# Altium integrated library altera-cyclone-II.IntLib: 24 symbols (part 3 of 3)
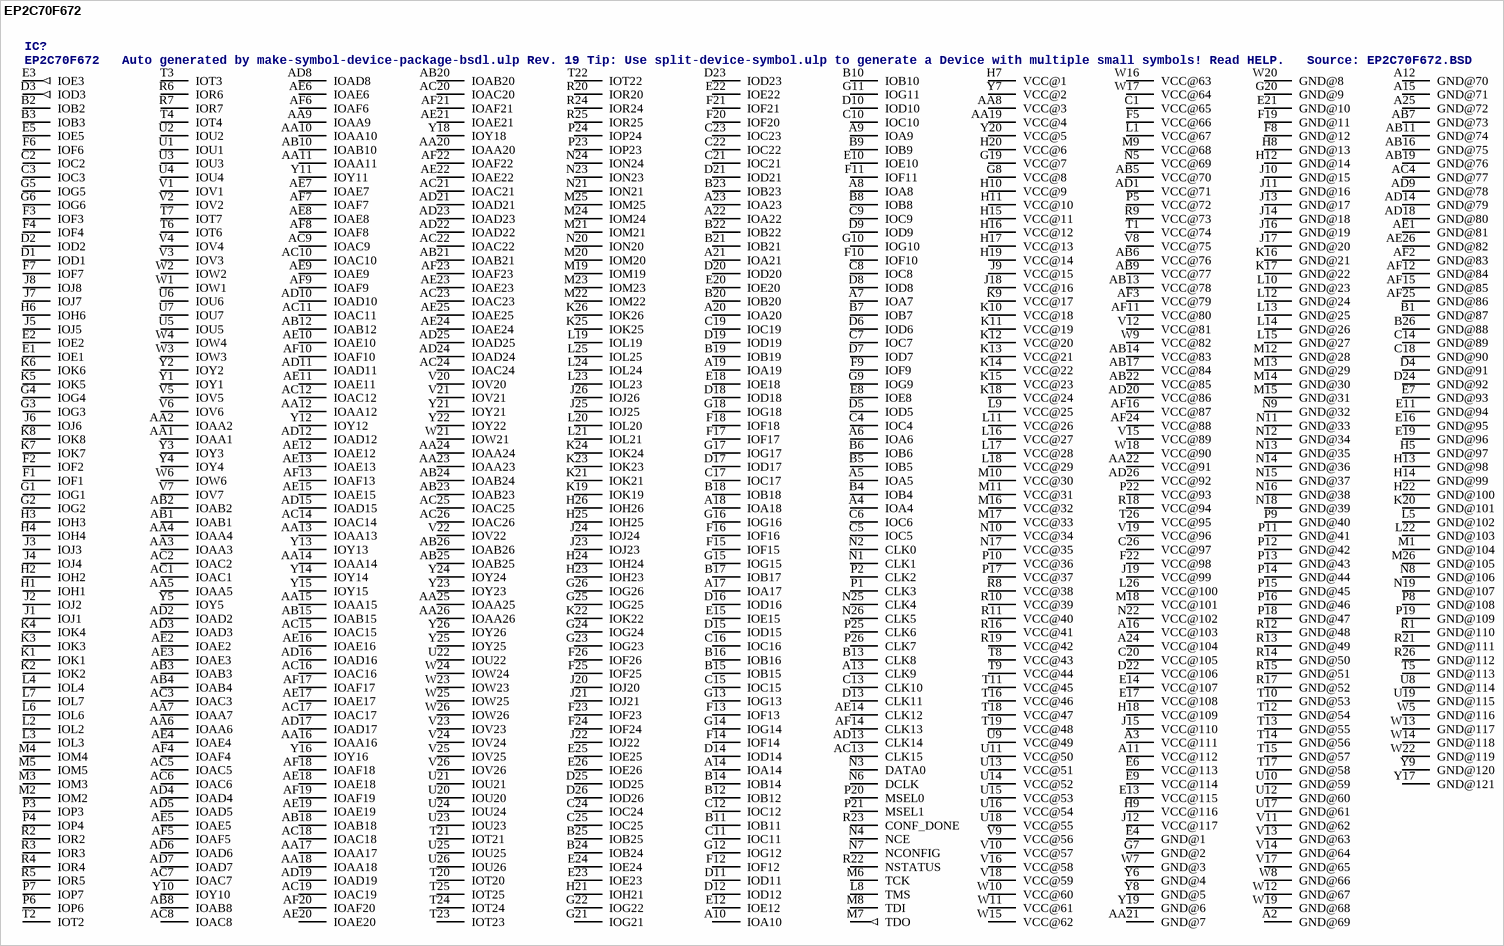
[diagram p22: symbol EP2C70F672]

## EP2C70F672
designator IC?, comment EP2C70F672   Auto generated by make-symbol-device-package-bsdl.ulp Rev. 19 Tip: Use split-device-symbol.ulp to generate a Device with multiple small symbols! Read HELP.   Source: EP2C70F672.BSD
MPN: EP2C70F672C8N; OC_FARNELL: 1635091; OC_NEWARK: 51R0572
footprint FBGA672
pins: A2 GND@69 (power), A3 VCC@111 (power), A4 IOA4, A5 IOA5, A6 IOA6, A7 IOA7, A8 IOA8, A9 IOA9, A10 IOA10, A11 VCC@112 (power), A12 GND@70 (power), A13 CLK9, A14 IOA14, A15 GND@71 (power), A16 VCC@103 (power), A17 IOA17, A18 IOA18, A19 IOA19, A20 IOA20, A21 IOA21, A22 IOA22, A23 IOA23, A24 VCC@104 (power), A25 GND@72 (power), AA1 IOAA1, AA2 IOAA2, AA3 IOAA3, AA4 IOAA4, AA5 IOAA5, AA6 IOAA6, AA7 IOAA7, AA8 VCC@3 (power), AA9 IOAA9, AA10 IOAA10, AA11 IOAA11, AA12 IOAA12, AA13 IOAA13, AA14 IOAA14, AA15 IOAA15, AA16 IOAA16, AA17 IOAA17, AA18 IOAA18, AA19 VCC@4 (power), AA20 IOAA20, AA21 GND@7 (power), AA22 VCC@91 (power), AA23 IOAA23, AA24 IOAA24, AA25 IOAA25, AA26 IOAA26, AB1 IOAB1, AB2 IOAB2, AB3 IOAB3, AB4 IOAB4, AB5 VCC@70 (power), AB6 VCC@76 (power), AB7 GND@73 (power), AB8 IOAB8, AB9 VCC@77 (power), AB10 IOAB10, AB11 GND@74 (power), AB12 IOAB12, AB13 VCC@78 (power), AB14 VCC@83 (power), AB15 IOAB15, AB16 GND@75 (power), AB17 VCC@84 (power), AB18 IOAB18, AB19 GND@76 (power), AB20 IOAB20, AB21 IOAB21, AB22 VCC@85 (power), AB23 IOAB23, AB24 IOAB24, AB25 IOAB25, AB26 IOAB26, AC1 IOAC1, AC2 IOAC2, AC3 IOAC3, AC4 GND@77 (power), AC5 IOAC5, AC6 IOAC6, AC7 IOAC7, AC8 IOAC8, AC9 IOAC9, AC10 IOAC10, AC11 IOAC11, AC12 IOAC12, AC13 CLK15, AC14 IOAC14, AC15 IOAC15, AC16 IOAC16, AC17 IOAC17, AC18 IOAC18, AC19 IOAC19, AC20 IOAC20, AC21 IOAC21, AC22 IOAC22, AC23 IOAC23, AC24 IOAC24, AC25 IOAC25, AC26 IOAC26, AD1 VCC@71 (power), AD2 IOAD2, AD3 IOAD3, AD4 IOAD4, AD5 IOAD5, AD6 IOAD6, AD7 IOAD7, AD8 IOAD8, AD9 GND@78 (power), AD10 IOAD10, AD11 IOAD11, AD12 IOAD12, AD13 CLK14, AD14 GND@79 (power), AD15 IOAD15, AD16 IOAD16, AD17 IOAD17, AD18 GND@80 (power), AD19 IOAD19, AD20 VCC@86 (power), AD21 IOAD21, AD22 IOAD22, AD23 IOAD23, AD24 IOAD24, AD25 IOAD25, AD26 VCC@92 (power), AE1 GND@81 (power), AE2 IOAE2, AE3 IOAE3, AE4 IOAE4, AE5 IOAE5, AE6 IOAE6, AE7 IOAE7, AE8 IOAE8, AE9 IOAE9, AE10 IOAE10, AE11 IOAE11, AE12 IOAE12, AE13 IOAE13, AE14 CLK12, AE15 IOAE15, AE16 IOAE16, AE17 IOAE17, AE18 IOAE18, AE19 IOAE19, AE20 IOAE20, AE21 IOAE21, AE22 IOAE22, AE23 IOAE23, AE24 IOAE24, AE25 IOAE25, AE26 GND@82 (power), AF2 GND@83 (power), AF3 VCC@79 (power), AF4 IOAF4, AF5 IOAF5, AF6 IOAF6, AF7 IOAF7, AF8 IOAF8, AF9 IOAF9, AF10 IOAF10, AF11 VCC@80 (power), AF12 GND@84 (power), AF13 IOAF13, AF14 CLK13, AF15 GND@85 (power), AF16 VCC@87 (power), AF17 IOAF17, AF18 IOAF18, AF19 IOAF19, AF20 IOAF20, AF21 IOAF21, AF22 IOAF22, AF23 IOAF23, AF24 VCC@88 (power), AF25 GND@86 (power), B1 GND@87 (power), B2 IOB2, B3 IOB3, B4 IOB4, B5 IOB5, B6 IOB6, B7 IOB7, B8 IOB8, B9 IOB9, B10 IOB10, B11 IOB11, B12 IOB12, B13 CLK8, B14 IOB14, B15 IOB15, B16 IOB16, B17 IOB17, B18 IOB18, B19 IOB19, B20 IOB20, B21 IOB21, B22 IOB22, B23 IOB23, B24 IOB24, B25 IOB25, B26 GND@88 (power), C1 VCC@65 (power), C2 IOC2, C3 IOC3, C4 IOC4, C5 IOC5, C6 IOC6, C7 IOC7, C8 IOC8, C9 IOC9, C10 IOC10, C11 IOC11, C12 IOC12, C13 CLK10, C14 GND@89 (power), C15 IOC15, C16 IOC16, C17 IOC17, C18 GND@90 (power), C19 IOC19, C20 VCC@105 (power), C21 IOC21, C22 IOC22, C23 IOC23, C24 IOC24, C25 IOC25, C26 VCC@97 (power), D1 IOD1, D2 IOD2, D3 IOD3 (out), D4 GND@91 (power), D5 IOD5, D6 IOD6, D7 IOD7, D8 IOD8, D9 IOD9, D10 IOD10, D11 IOD11, D12 IOD12, D13 CLK11, D14 IOD14, D15 IOD15, D16 IOD16, D17 IOD17, D18 IOD18, D19 IOD19, D20 IOD20, D21 IOD21, D22 VCC@106 (power), D23 IOD23, D24 GND@92 (power), D25 IOD25, D26 IOD26, E1 IOE1, E2 IOE2, E3 IOE3 (out), E4 GND@1 (power), E5 IOE5, E6 VCC@113 (power), E7 GND@93 (power), E8 IOE8, E9 VCC@114 (power), E10 IOE10, E11 GND@94 (power), E12 IOE12, E13 VCC@115 (power), E14 VCC@107 (power), E15 IOE15, E16 GND@95 (power), E17 VCC@108 (power), E18 IOE18, E19 GND@96 (power), E20 IOE20, E21 GND@10 (power), E22 IOE22, E23 IOE23, E24 IOE24, E25 IOE25, E26 IOE26, F1 IOF1, F2 IOF2, F3 IOF3, F4 IOF4, F5 VCC@66 (power), F6 IOF6, F7 IOF7, F8 GND@12 (power), F9 IOF9, F10 IOF10, F11 IOF11, F12 IOF12, F13 IOF13, F14 IOF14, F15 IOF15, F16 IOF16, F17 IOF17, F18 IOF18, F19 GND@11 (power), F20 IOF20, F21 IOF21, F22 VCC@98 (power), F23 IOF23, F24 IOF24, F25 IOF25, F26 IOF26, G1 IOG1, G2 IOG2, G3 IOG3, G4 IOG4, G5 IOG5, G6 IOG6, G7 GND@2 (power), G8 VCC@8 (power), G9 IOG9, G10 IOG10, G11 IOG11, G12 IOG12, G13 IOG13, G14 IOG14, G15 IOG15, G16 IOG16, G17 IOG17, G18 IOG18, G19 VCC@7 (power), G20 GND@9 (power), G21 IOG21, G22 IOG22, G23 IOG23, G24 IOG24, G25 IOG25, G26 IOG26, H1 IOH1, H2 IOH2, H3 IOH3, H4 IOH4, H5 GND@97 (power), H6 IOH6, H7 VCC@1 (power), H8 GND@13 (power), H9 VCC@116 (power), H10 VCC@9 (power), H11 VCC@10 (power), H12 GND@14 (power), H13 GND@98 (power), H14 GND@99 (power), H15 VCC@11 (power), H16 VCC@12 (power), H17 VCC@13 (power), H18 VCC@109 (power), H19 VCC@14 (power), H20 VCC@6 (power), H21 IOH21, H22 GND@100 (power), H23 IOH23, H24 IOH24, H25 IOH25, H26 IOH26, J1 IOJ1, J2 IOJ2, J3 IOJ3, J4 IOJ4, J5 IOJ5, J6 IOJ6, J7 IOJ7, J8 IOJ8, J9 VCC@15 (power), J10 GND@15 (power), J11 GND@16 (power), J12 VCC@117 (power), J13 GND@17 (power), J14 GND@18 (power), J15 VCC@110 (power), J16 GND@19 (power), J17 GND@20 (power), J18 VCC@16 (power), J19 VCC@99 (power), J20 IOJ20, J21 IOJ21, J22 IOJ22, J23 IOJ23, J24 IOJ24, J25 IOJ25, J26 IOJ26, K1 IOK1, K2 IOK2, K3 IOK3, K4 IOK4, K5 IOK5, K6 IOK6, K7 IOK7, K8 IOK8, K9 VCC@17 (power), K10 VCC@18 (power), K11 VCC@19 (power), K12 VCC@20 (power), K13 VCC@21 (power), K14 VCC@22 (power), K15 VCC@23 (power), K16 GND@21 (power), K17 GND@22 (power), K18 VCC@24 (power), K19 IOK19, K20 GND@101 (power), K21 IOK21, K22 IOK22, K23 IOK23, K24 IOK24, K25 IOK25, K26 IOK26, L1 VCC@67 (power), L2 IOL2, L3 IOL3, L4 IOL4, L5 GND@102 (power), L6 IOL6, L7 IOL7, L8 TMS, L9 VCC@25 (power), L10 GND@23 (power), L11 VCC@26 (power), L12 GND@24 (power), L13 GND@25 (power), L14 GND@26 (power), L15 GND@27 (power), L16 VCC@27 (power), L17 VCC@28 (power), L18 VCC@29 (power), L19 IOL19, L20 IOL20, L21 IOL21, L22 GND@103 (power), L23 IOL23, L24 IOL24, L25 IOL25, L26 VCC@100 (power), M1 GND@104 (power), M2 IOM2, M3 IOM3, M4 IOM4, M5 IOM5, M6 TCK, M7 TDO (out), M8 TDI, M9 VCC@68 (power), M10 VCC@30 (power), M11 VCC@31 (power), M12 GND@28 (power), M13 GND@29 (power), M14 GND@30 (power), M15 GND@31 (power), M16 VCC@32 (power), M17 VCC@33 (power), M18 VCC@101 (power), M19 IOM19, M20 IOM20, M21 IOM21, M22 IOM22, M23 IOM23, M24 IOM24, M25 IOM25, M26 GND@105 (power), N1 CLK1, N2 CLK0, N3 DATA0, N4 NCE, N5 VCC@69 (power), N6 DCLK, N7 NCONFIG, N8 GND@106 (power), N9 GND@32 (power), N10 VCC@34 (power), N11 GND@33 (power), N12 GND@34 (power), N13 GND@35 (power), N14 GND@36 (power), N15 GND@37 (power), N16 GND@38 (power), N17 VCC@35 (power), N18 GND@39 (power), N19 GND@107 (power), N20 ION20, N21 ION21, N22 VCC@102 (power), N23 ION23, N24 ION24, N25 CLK4, N26 CLK5, P1 CLK3, P2 CLK2, P3 IOP3, P4 IOP4, P5 VCC@72 (power), P6 IOP6, P7 IOP7, P8 GND@108 (power), P9 GND@40 (power), P10 VCC@36 (power), P11 GND@41 (power), P12 GND@42 (power), P13 GND@43 (power), P14 GND@44 (power), P15 GND@45 (power), P16 GND@46 (power), P17 VCC@37 (power), P18 GND@47 (power), P19 GND@109 (power), P20 MSEL0, P21 MSEL1, P22 VCC@93 (power), P23 IOP23, P24 IOP24, P25 CLK6, P26 CLK7, R1 GND@110 (power), R2 IOR2, R3 IOR3, R4 IOR4, R5 IOR5, R6 IOR6, R7 IOR7, R8 VCC@38 (power), R9 VCC@73 (power), R10 VCC@39 (power), R11 VCC@40 (power), R12 GND@48 (power), R13 GND@49 (power), R14 GND@50 (power), R15 GND@51 (power), R16 VCC@41 (power), R17 GND@52 (power), R18 VCC@94 (power), R19 VCC@42 (power), R20 IOR20, R21 GND@111 (power), R22 NSTATUS, R23 CONF_DONE, R24 IOR24, R25 IOR25, R26 GND@112 (power), T1 VCC@74 (power), T2 IOT2, T3 IOT3, T4 IOT4, T5 GND@113 (power), T6 IOT6, T7 IOT7, T8 VCC@43 (power), T9 VCC@44 (power), T10 GND@53 (power), T11 VCC@45 (power), T12 GND@54 (power), T13 GND@55 (power), T14 GND@56 (power), T15 GND@57 (power), T16 VCC@46 (power), T17 GND@58 (power), T18 VCC@47 (power), T19 VCC@48 (power), T20 IOT20, T21 IOT21, T22 IOT22, T23 IOT23, T24 IOT24, T25 IOT25, T26 VCC@95 (power), U1 IOU1, U2 IOU2, U3 IOU3, U4 IOU4, U5 IOU5, U6 IOU6, U7 IOU7, U8 GND@114 (power), U9 VCC@49 (power), U10 GND@59 (power), U11 VCC@50 (power), U12 GND@60 (power), U13 VCC@51 (power), U14 VCC@52 (power), U15 VCC@53 (power), U16 VCC@54 (power), U17 GND@61 (power), U18 VCC@55 (power), U19 GND@115 (power), U20 IOU20, U21 IOU21, U22 IOU22, U23 IOU23, U24 IOU24, U25 IOU25, U26 IOU26, V1 IOV1, V2 IOV2, V3 IOV3, V4 IOV4, V5 IOV5, V6 IOV6, V7 IOV7, V8 VCC@75 (power), V9 VCC@56 (power), V10 VCC@57 (power), V11 GND@62 (power), V12 VCC@81 (power), V13 GND@63 (power), V14 GND@64 (power), V15 VCC@89 (power), V16 VCC@58 (power), V17 GND@65 (power), V18 VCC@59 (power), V19 VCC@96 (power), V20 IOV20, V21 IOV21, V22 IOV22, V23 IOV23, V24 IOV24, V25 IOV25, V26 IOV26, W1 IOW1, W2 IOW2, W3 IOW3, W4 IOW4, W5 GND@116 (power), W6 IOW6, W7 GND@3 (power), W8 GND@66 (power), W9 VCC@82 (power), W10 VCC@60 (power), W11 VCC@61 (power), W12 GND@67 (power), W13 GND@117 (power), W14 GND@118 (power), W15 VCC@62 (power), W16 VCC@63 (power), W17 VCC@64 (power), W18 VCC@90 (power), W19 GND@68 (power), W20 GND@8 (power), W21 IOW21, W22 GND@119 (power), W23 IOW23, W24 IOW24, W25 IOW25, W26 IOW26, Y1 IOY1, Y2 IOY2, Y3 IOY3, Y4 IOY4, Y5 IOY5, Y6 GND@4 (power), Y7 VCC@2 (power), Y8 GND@5 (power), Y9 GND@120 (power), Y10 IOY10, Y11 IOY11, Y12 IOY12, Y13 IOY13, Y14 IOY14, Y15 IOY15, Y16 IOY16, Y17 GND@121 (power), Y18 IOY18, Y19 GND@6 (power), Y20 VCC@5 (power), Y21 IOY21, Y22 IOY22, Y23 IOY23, Y24 IOY24, Y25 IOY25, Y26 IOY26

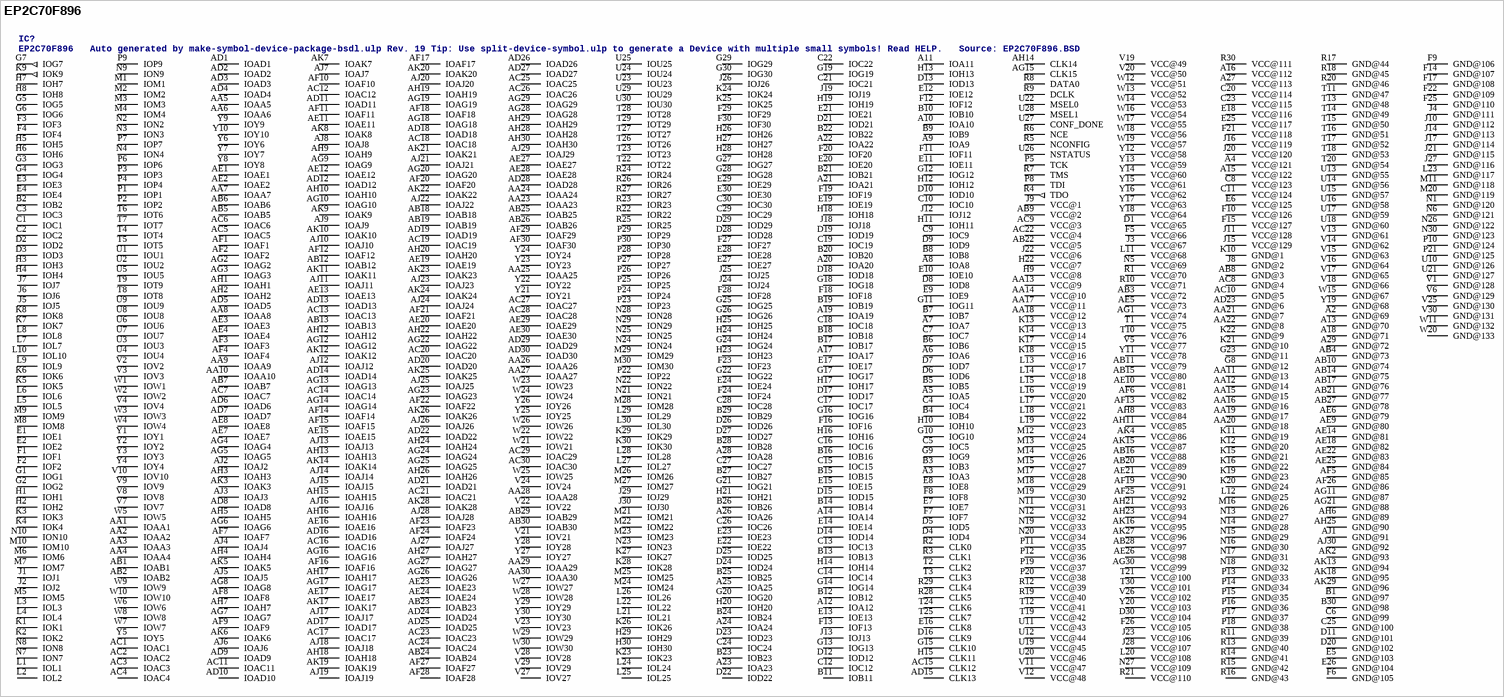
[diagram p20: symbol EP2C70F896]

## EP2C70F896
designator IC?, comment EP2C70F896   Auto generated by make-symbol-device-package-bsdl.ulp Rev. 19 Tip: Use split-device-symbol.ulp to generate a Device with multiple small symbols! Read HELP.   Source: EP2C70F896.BSD
MPN: EP2C70F896C8N; OC_FARNELL: 1635092; OC_NEWARK: 51R0573
footprint FBGA896
pins: A2 GND@69 (power), A3 IOA3, A4 VCC@121 (power), A5 IOA5, A6 IOA6, A7 IOA7, A8 IOA8, A9 IOA9, A10 IOA10, A11 IOA11, A12 IOA12, A13 GND@70 (power), A14 IOA14, A15 VCC@122 (power), A16 VCC@112 (power), A17 IOA17, A18 GND@71 (power), A19 IOA19, A20 IOA20, A21 IOA21, A22 IOA22, A23 IOA23, A24 IOA24, A25 IOA25, A26 IOA26, A27 VCC@113 (power), A28 IOA28, A29 GND@72 (power), AA1 IOAA1, AA2 IOAA2, AA3 IOAA3, AA4 IOAA4, AA5 IOAA5, AA6 IOAA6, AA7 IOAA7, AA8 IOAA8, AA9 IOAA9, AA10 IOAA10, AA11 GND@13 (power), AA12 GND@14 (power), AA13 VCC@9 (power), AA14 VCC@10 (power), AA15 GND@15 (power), AA16 GND@16 (power), AA17 VCC@11 (power), AA18 VCC@12 (power), AA19 GND@17 (power), AA20 GND@18 (power), AA21 GND@7 (power), AA22 GND@8 (power), AA23 IOAA23, AA24 IOAA24, AA25 IOAA25, AA26 IOAA26, AA27 IOAA27, AA28 IOAA28, AA29 IOAA29, AA30 IOAA30, AB1 IOAB1, AB2 IOAB2, AB3 VCC@72 (power), AB4 GND@73 (power), AB5 IOAB5, AB6 IOAB6, AB7 IOAB7, AB8 GND@3 (power), AB9 VCC@2 (power), AB10 GND@74 (power), AB11 VCC@79 (power), AB12 IOAB12, AB13 IOAB13, AB14 GND@75 (power), AB15 VCC@80 (power), AB16 VCC@88 (power), AB17 GND@76 (power), AB18 IOAB18, AB19 IOAB19, AB20 VCC@89 (power), AB21 GND@77 (power), AB22 VCC@5 (power), AB23 IOAB23, AB24 IOAB24, AB25 IOAB25, AB26 IOAB26, AB27 GND@78 (power), AB28 VCC@97 (power), AB29 IOAB29, AB30 IOAB30, AC1 IOAC1, AC2 IOAC2, AC3 IOAC3, AC4 IOAC4, AC5 IOAC5, AC6 IOAC6, AC7 IOAC7, AC8 GND@4 (power), AC9 VCC@3 (power), AC10 GND@5 (power), AC11 IOAC11, AC12 IOAC12, AC13 IOAC13, AC14 IOAC14, AC15 CLK12, AC16 IOAC16, AC17 IOAC17, AC18 IOAC18, AC19 IOAC19, AC20 IOAC20, AC21 IOAC21, AC22 VCC@4 (power), AC23 IOAC23, AC24 IOAC24, AC25 IOAC25, AC26 IOAC26, AC27 IOAC27, AC28 IOAC28, AC29 IOAC29, AC30 IOAC30, AD1 IOAD1, AD2 IOAD2, AD3 IOAD3, AD4 IOAD4, AD5 IOAD5, AD6 IOAD6, AD7 IOAD7, AD8 IOAD8, AD9 IOAD9, AD10 IOAD10, AD11 IOAD11, AD12 IOAD12, AD13 IOAD13, AD14 IOAD14, AD15 CLK13, AD16 IOAD16, AD17 IOAD17, AD18 IOAD18, AD19 IOAD19, AD20 IOAD20, AD21 IOAD21, AD22 IOAD22, AD23 GND@6 (power), AD24 IOAD24, AD25 IOAD25, AD26 IOAD26, AD27 IOAD27, AD28 IOAD28, AD29 IOAD29, AD30 IOAD30, AE1 IOAE1, AE2 IOAE2, AE3 IOAE3, AE4 IOAE4, AE5 VCC@73 (power), AE6 GND@79 (power), AE7 IOAE7, AE8 IOAE8, AE9 GND@80 (power), AE10 VCC@81 (power), AE11 IOAE11, AE12 IOAE12, AE13 IOAE13, AE14 GND@81 (power), AE15 IOAE15, AE16 IOAE16, AE17 IOAE17, AE18 GND@82 (power), AE19 IOAE19, AE20 IOAE20, AE21 VCC@90 (power), AE22 GND@83 (power), AE23 IOAE23, AE24 IOAE24, AE25 GND@84 (power), AE26 VCC@98 (power), AE27 IOAE27, AE28 IOAE28, AE29 IOAE29, AE30 IOAE30, AF1 IOAF1, AF2 IOAF2, AF3 IOAF3, AF4 IOAF4, AF5 GND@85 (power), AF6 VCC@82 (power), AF7 IOAF7, AF8 IOAF8, AF9 IOAF9, AF10 IOAF10, AF11 IOAF11, AF12 IOAF12, AF13 VCC@83 (power), AF14 IOAF14, AF15 IOAF15, AF16 IOAF16, AF17 IOAF17, AF18 IOAF18, AF19 VCC@91 (power), AF20 IOAF20, AF21 IOAF21, AF22 IOAF22, AF23 IOAF23, AF24 IOAF24, AF25 VCC@92 (power), AF26 GND@86 (power), AF27 IOAF27, AF28 IOAF28, AF29 IOAF29, AF30 IOAF30, AG1 VCC@74 (power), AG2 IOAG2, AG3 IOAG3, AG4 IOAG4, AG5 IOAG5, AG6 IOAG6, AG7 IOAG7, AG8 IOAG8, AG9 IOAG9, AG10 IOAG10, AG11 GND@87 (power), AG12 IOAG12, AG13 IOAG13, AG14 IOAG14, AG15 CLK15, AG16 IOAG16, AG17 IOAG17, AG18 IOAG18, AG19 IOAG19, AG20 IOAG20, AG21 GND@88 (power), AG22 IOAG22, AG23 IOAG23, AG24 IOAG24, AG25 IOAG25, AG26 IOAG26, AG27 IOAG27, AG28 IOAG28, AG29 IOAG29, AG30 VCC@99 (power), AH1 IOAH1, AH2 IOAH2, AH3 IOAH3, AH4 IOAH4, AH5 IOAH5, AH6 GND@89 (power), AH7 IOAH7, AH8 VCC@84 (power), AH9 IOAH9, AH10 IOAH10, AH11 VCC@85 (power), AH12 IOAH12, AH13 IOAH13, AH14 CLK14, AH15 IOAH15, AH16 IOAH16, AH17 IOAH17, AH18 IOAH18, AH19 IOAH19, AH20 IOAH20, AH21 VCC@93 (power), AH22 IOAH22, AH23 VCC@94 (power), AH24 IOAH24, AH25 GND@90 (power), AH26 IOAH26, AH27 IOAH27, AH28 IOAH28, AH29 IOAH29, AH30 IOAH30, AJ1 GND@91 (power), AJ2 IOAJ2, AJ3 IOAJ3, AJ4 IOAJ4, AJ5 IOAJ5, AJ6 IOAJ6, AJ7 IOAJ7, AJ8 IOAJ8, AJ9 IOAJ9, AJ10 IOAJ10, AJ11 IOAJ11, AJ12 IOAJ12, AJ13 IOAJ13, AJ14 IOAJ14, AJ15 IOAJ15, AJ16 IOAJ16, AJ17 IOAJ17, AJ18 IOAJ18, AJ19 IOAJ19, AJ20 IOAJ20, AJ21 IOAJ21, AJ22 IOAJ22, AJ23 IOAJ23, AJ24 IOAJ24, AJ25 IOAJ25, AJ26 IOAJ26, AJ27 IOAJ27, AJ28 IOAJ28, AJ29 IOAJ29, AJ30 GND@92 (power), AK2 GND@93 (power), AK3 IOAK3, AK4 VCC@86 (power), AK5 IOAK5, AK6 IOAK6, AK7 IOAK7, AK8 IOAK8, AK9 IOAK9, AK10 IOAK10, AK11 IOAK11, AK12 IOAK12, AK13 GND@94 (power), AK14 IOAK14, AK15 VCC@87 (power), AK16 VCC@95 (power), AK17 IOAK17, AK18 GND@95 (power), AK19 IOAK19, AK20 IOAK20, AK21 IOAK21, AK22 IOAK22, AK23 IOAK23, AK24 IOAK24, AK25 IOAK25, AK26 IOAK26, AK27 VCC@96 (power), AK28 IOAK28, AK29 GND@96 (power), B1 GND@97 (power), B2 IOB2, B3 IOB3, B4 IOB4, B5 IOB5, B6 IOB6, B7 IOB7, B8 IOB8, B9 IOB9, B10 IOB10, B11 IOB11, B12 IOB12, B13 IOB13, B14 IOB14, B15 IOB15, B16 IOB16, B17 IOB17, B18 IOB18, B19 IOB19, B20 IOB20, B21 IOB21, B22 IOB22, B23 IOB23, B24 IOB24, B25 IOB25, B26 IOB26, B27 IOB27, B28 IOB28, B29 IOB29, B30 GND@98 (power), C1 IOC1, C2 IOC2, C3 IOC3, C4 IOC4, C5 IOC5, C6 GND@99 (power), C7 IOC7, C8 VCC@123 (power), C9 IOC9, C10 IOC10, C11 VCC@124 (power), C12 IOC12, C13 IOC13, C14 IOC14, C15 IOC15, C16 IOC16, C17 IOC17, C18 IOC18, C19 IOC19, C20 VCC@114 (power), C21 IOC21, C22 IOC22, C23 VCC@115 (power), C24 IOC24, C25 GND@100 (power), C26 IOC26, C27 IOC27, C28 IOC28, C29 IOC29, C30 IOC30, D1 VCC@65 (power), D2 IOD2, D3 IOD3, D4 IOD4, D5 IOD5, D6 IOD6, D7 IOD7, D8 IOD8, D9 IOD9, D10 IOD10, D11 GND@101 (power), D12 IOD12, D13 IOD13, D14 IOD14, D15 IOD15, D16 CLK9, D17 IOD17, D18 IOD18, D19 IOD19, D20 GND@102 (power), D21 IOD21, D22 IOD22, D23 IOD23, D24 IOD24, D25 IOD25, D26 IOD26, D27 IOD27, D28 IOD28, D29 IOD29, D30 VCC@104 (power), E1 IOE1, E2 IOE2, E3 IOE3, E4 IOE4, E5 GND@103 (power), E6 VCC@125 (power), E7 IOE7, E8 IOE8, E9 IOE9, E10 IOE10, E11 IOE11, E12 IOE12, E13 IOE13, E14 IOE14, E15 IOE15, E16 CLK8, E17 IOE17, E18 VCC@116 (power), E19 IOE19, E20 IOE20, E21 IOE21, E22 IOE22, E23 IOE23, E24 IOE24, E25 VCC@117 (power), E26 GND@104 (power), E27 IOE27, E28 IOE28, E29 IOE29, E30 IOE30, F1 IOF1, F2 IOF2, F3 IOF3, F4 IOF4, F5 VCC@66 (power), F6 GND@105 (power), F7 IOF7, F8 IOF8, F9 GND@106 (power), F10 VCC@126 (power), F11 IOF11, F12 IOF12, F13 IOF13, F14 GND@107 (power), F15 VCC@127 (power), F16 IOF16, F17 GND@108 (power), F18 IOF18, F19 IOF19, F20 IOF20, F21 VCC@118 (power), F22 GND@109 (power), F23 IOF23, F24 IOF24, F25 GND@110 (power), F26 VCC@105 (power), F27 IOF27, F28 IOF28, F29 IOF29, F30 IOF30, G1 IOG1, G2 IOG2, G3 IOG3, G4 IOG4, G5 IOG5, G6 IOG6, G7 IOG7 (out), G8 GND@12 (power), G9 IOG9, G10 IOG10, G11 IOG11, G12 IOG12, G13 IOG13, G14 IOG14, G15 CLK10, G16 IOG16, G17 IOG17, G18 IOG18, G19 IOG19, G20 IOG20, G21 IOG21, G22 IOG22, G23 GND@11 (power), G24 IOG24, G25 IOG25, G26 IOG26, G27 IOG27, G28 IOG28, G29 IOG29, G30 IOG30, H1 IOH1, H2 IOH2, H3 IOH3, H4 IOH4, H5 IOH5, H6 IOH6, H7 IOH7, H8 IOH8, H9 VCC@8 (power), H10 IOH10, H11 IOH11, H12 IOH12, H13 IOH13, H14 IOH14, H15 CLK11, H16 IOH16, H17 IOH17, H18 IOH18, H19 IOH19, H20 IOH20, H21 IOH21, H22 VCC@7 (power), H23 IOH23, H24 IOH24, H25 IOH25, H26 IOH26, H27 IOH27, H28 IOH28, H29 IOH29, H30 IOH30, J1 IOJ1, J2 IOJ2, J3 VCC@67 (power), J4 GND@111 (power), J5 IOJ5, J6 IOJ6, J7 IOJ7, J8 GND@2 (power), J9 VCC@1 (power), J10 GND@112 (power), J11 VCC@128 (power), J12 IOJ12, J13 IOJ13, J14 GND@113 (power), J15 VCC@129 (power), J16 VCC@119 (power), J17 GND@114 (power), J18 IOJ18, J19 IOJ19, J20 VCC@120 (power), J21 GND@115 (power), J22 VCC@6 (power), J23 VCC@106 (power), J24 IOJ24, J25 IOJ25, J26 IOJ26, J27 GND@116 (power), J28 VCC@107 (power), J29 IOJ29, J30 IOJ30, K1 IOK1, K2 IOK2, K3 IOK3, K4 IOK4, K5 IOK5, K6 IOK6, K7 IOK7, K8 IOK8, K9 IOK9 (out), K10 GND@1 (power), K11 GND@19 (power), K12 GND@20 (power), K13 VCC@13 (power), K14 VCC@14 (power), K15 GND@21 (power), K16 GND@22 (power), K17 VCC@15 (power), K18 VCC@16 (power), K19 GND@23 (power), K20 GND@24 (power), K21 GND@10 (power), K22 GND@9 (power), K23 IOK23, K24 IOK24, K25 IOK25, K26 IOK26, K27 IOK27, K28 IOK28, K29 IOK29, K30 IOK30, L1 IOL1, L2 IOL2, L3 IOL3, L4 IOL4, L5 IOL5, L6 IOL6, L7 IOL7, L8 IOL8, L9 IOL9, L10 IOL10, L11 VCC@68 (power), L12 GND@25 (power), L13 VCC@17 (power), L14 VCC@18 (power), L15 VCC@19 (power), L16 VCC@20 (power), L17 VCC@21 (power), L18 VCC@22 (power), L19 VCC@23 (power), L20 VCC@108 (power), L21 IOL21, L22 IOL22, L23 GND@117 (power), L24 IOL24, L25 IOL25, L26 IOL26, L27 IOL27, L28 IOL28, L29 IOL29, L30 IOL30, M1 IOM1, M2 IOM2, M3 IOM3, M4 IOM4, M5 IOM5, M6 IOM6, M7 IOM7, M8 IOM8, M9 IOM9, M10 IOM10, M11 GND@118 (power), M12 VCC@24 (power), M13 VCC@25 (power), M14 VCC@26 (power), M15 VCC@27 (power), M16 GND@26 (power), M17 VCC@28 (power), M18 VCC@29 (power), M19 VCC@30 (power), M20 GND@119 (power), M21 IOM21, M22 IOM22, M23 IOM23, M24 IOM24, M25 IOM25, M26 IOM26, M27 IOM27, M28 IOM28, M29 IOM29, M30 IOM30, N1 GND@120 (power), N2 ION2, N3 ION3, N4 ION4, N5 VCC@69 (power), N6 GND@121 (power), N7 ION7, N8 ION8, N9 ION9, N10 ION10, N11 VCC@31 (power), N12 VCC@32 (power), N13 GND@27 (power), N14 GND@28 (power), N15 GND@29 (power), N16 GND@30 (power), N17 GND@31 (power), N18 GND@32 (power), N19 VCC@33 (power), N20 VCC@34 (power), N21 ION21, N22 ION22, N23 ION23, N24 ION24, N25 ION25, N26 GND@122 (power), N27 VCC@109 (power), N28 ION28, N29 ION29, N30 GND@123 (power), P1 IOP1, P2 IOP2, P3 IOP3, P4 IOP4, P5 TCK, P6 IOP6, P7 IOP7, P8 TDI, P9 IOP9, P10 GND@124 (power), P11 VCC@35 (power), P12 VCC@36 (power), P13 GND@33 (power), P14 GND@34 (power), P15 GND@35 (power), P16 GND@36 (power), P17 GND@37 (power), P18 GND@38 (power), P19 VCC@37 (power), P20 VCC@38 (power), P21 GND@125 (power), P22 IOP22, P23 IOP23, P24 IOP24, P25 IOP25, P26 IOP26, P27 IOP27, P28 IOP28, P29 IOP29, P30 IOP30, R1 VCC@70 (power), R2 CLK0, R3 CLK1, R4 TDO (out), R5 NCONFIG, R6 NCE, R7 TMS, R8 DATA0, R9 DCLK, R10 VCC@71 (power), R11 GND@39 (power), R12 VCC@39 (power), R13 GND@40 (power), R14 GND@41 (power), R15 GND@42 (power), R16 GND@43 (power), R17 GND@44 (power), R18 GND@45 (power), R19 VCC@40 (power), R20 GND@46 (power), R21 VCC@110 (power), R22 IOR22, R23 IOR23, R24 IOR24, R25 IOR25, R26 IOR26, R27 IOR27, R28 CLK5, R29 CLK4, R30 VCC@111 (power), T1 VCC@75 (power), T2 CLK2, T3 CLK3, T4 IOT4, T5 IOT5, T6 IOT6, T7 IOT7, T8 IOT8, T9 IOT9, T10 VCC@76 (power), T11 GND@47 (power), T12 VCC@41 (power), T13 GND@48 (power), T14 GND@49 (power), T15 GND@50 (power), T16 GND@51 (power), T17 GND@52 (power), T18 GND@53 (power), T19 VCC@42 (power), T20 GND@54 (power), T21 VCC@100 (power), T22 IOT22, T23 IOT23, T24 CLK6, T25 CLK7, T26 IOT26, T27 IOT27, T28 IOT28, T29 IOT29, T30 VCC@101 (power), U1 IOU1, U2 IOU2, U3 IOU3, U4 IOU4, U5 IOU5, U6 IOU6, U7 IOU7, U8 IOU8, U9 IOU9, U10 GND@126 (power), U11 VCC@43 (power), U12 VCC@44 (power), U13 GND@55 (power), U14 GND@56 (power), U15 GND@57 (power), U16 GND@58 (power), U17 GND@59 (power), U18 GND@60 (power), U19 VCC@45 (power), U20 VCC@46 (power), U21 GND@127 (power), U22 MSEL0, U23 IOU23, U24 IOU24, U25 IOU25, U26 NSTATUS, U27 CONF_DONE, U28 MSEL1, U29 IOU29, U30 IOU30, V1 GND@128 (power), V2 IOV2, V3 IOV3, V4 IOV4, V5 VCC@77 (power), V6 GND@129 (power), V7 IOV7, V8 IOV8, V9 IOV9, V10 IOV10, V11 VCC@47 (power), V12 VCC@48 (power), V13 GND@61 (power), V14 GND@62 (power), V15 GND@63 (power), V16 GND@64 (power), V17 GND@65 (power), V18 GND@66 (power), V19 VCC@49 (power), V20 VCC@50 (power), V21 IOV21, V22 IOV22, V23 IOV23, V24 IOV24, V25 GND@130 (power), V26 VCC@102 (power), V27 IOV27, V28 IOV28, V29 IOV29, V30 GND@131 (power), W1 IOW1, W2 IOW2, W3 IOW3, W4 IOW4, W5 IOW5, W6 IOW6, W7 IOW7, W8 IOW8, W9 IOW9, W10 IOW10, W11 GND@132 (power), W12 VCC@51 (power), W13 VCC@52 (power), W14 VCC@53 (power), W15 GND@67 (power), W16 VCC@54 (power), W17 VCC@55 (power), W18 VCC@56 (power), W19 VCC@57 (power), W20 GND@133 (power), W21 IOW21, W22 IOW22, W23 IOW23, W24 IOW24, W25 IOW25, W26 IOW26, W27 IOW27, W28 IOW28, W29 IOW29, W30 IOW30, Y1 IOY1, Y2 IOY2, Y3 IOY3, Y4 IOY4, Y5 IOY5, Y6 IOY6, Y7 IOY7, Y8 IOY8, Y9 IOY9, Y10 IOY10, Y11 VCC@78 (power), Y12 VCC@58 (power), Y13 VCC@59 (power), Y14 VCC@60 (power), Y15 VCC@61 (power), Y16 VCC@62 (power), Y17 VCC@63 (power), Y18 VCC@64 (power), Y19 GND@68 (power), Y20 VCC@103 (power), Y21 IOY21, Y22 IOY22, Y23 IOY23, Y24 IOY24, Y25 IOY25, Y26 IOY26, Y27 IOY27, Y28 IOY28, Y29 IOY29, Y30 IOY30